# EAGLE library part IRF7204 (library semiconductor)
P-Channel 30-V (D-S) MOSFET VDSS = -20V RDS(on) = 0.060? ID = -5.3A
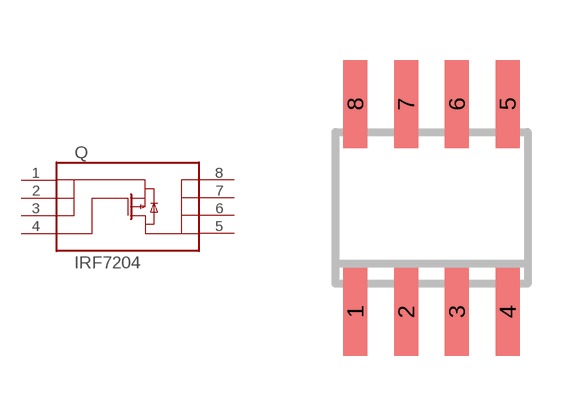
[diagram p1: symbol with the pads of SO-8; footprint SO-8]

Designator prefix Q

## IRF7204  [SO-8]
1  S  pas
2  S  pas
3  S  pas
4  G  pas
5  D  pas
6  D  pas
7  D  pas
8  D  pas

## Footprint SO-8 (pad centres in mm)
Small Outline Narrow Plastic Gull Wing 150-mil body, package type SN
smd 0.6 x 2.2: 1 -1.905,-2.6; 2 -0.635,-2.6; 3 0.635,-2.6; 4 1.905,-2.6; 5 1.905,2.6; 6 0.635,2.6; 7 -0.635,2.6; 8 -1.905,2.6